# Altium integrated library NE555D.IntLib: 1 symbol
Pins are listed as number, name and electrical type; pins without a type are passive.

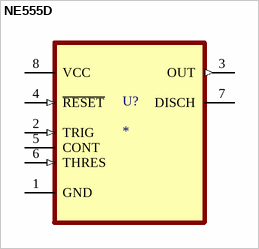
[diagram p0: symbol NE555D]

## NE555D
designator U?
555 Type, Timer/Oscillator (Single) IC 500kHz 8-SOIC; MF: STMicroelectronics; MP: NE555D; Availability: In Stock; SnapEDA_Link: https://www.snapeda.com/parts/NE555D/STMicroelectronics/view-part/?ref=snap; Price: None; Check_prices: https://www.snapeda.com/parts/NE555D/STMicroelectronics/view-part/?ref=eda; Package: SOIC-8 Texas Instruments; Value: *; Purchase-URL: https://pricing.snapeda.com/search/part/NE555D/?ref=eda
footprint SOIC127P600X175-8N
pins: 1 GND, 2 TRIG (in), 3 OUT (out), 4 ~{RESET} (in), 5 CONT, 6 THRES (in), 7 DISCH, 8 VCC (power)